# Altium footprint library AP63205WU-7.PcbLib: 1 footprints
Each footprint in its own frame and in the unit in brackets; x right, y up, seen from the top. Pads: shape width x height; smd on the part's side, far side on the other; paste and mask are expansions set on the pad; w line width, h text height; cw(c..) or ccw(c..) is an arc to the next point about the centre after c.
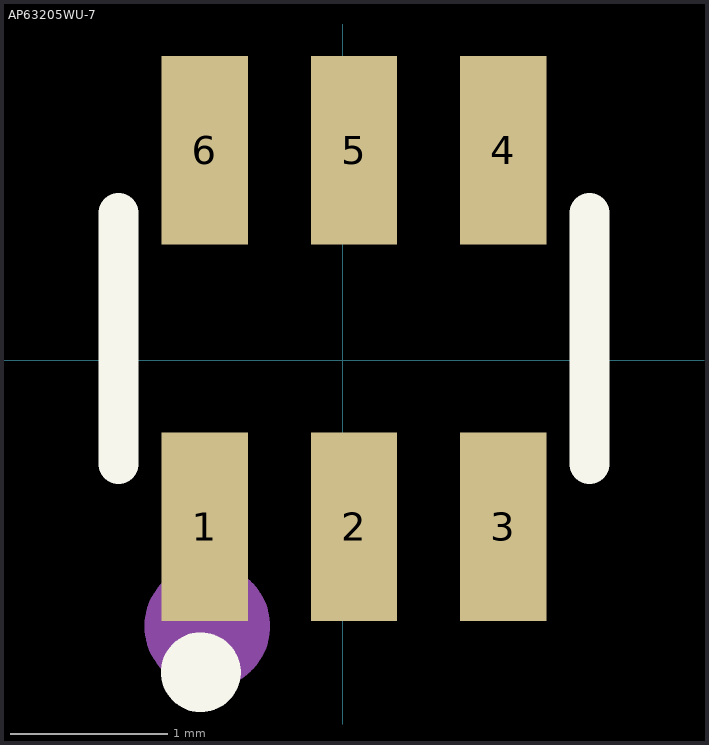
[diagram p0: the footprint, top view; thin cyan lines are the x and y axes]

## AP63205WU-7 [mm]
pads (6):
  rect 0.55x1.2 smd paste+0 mask+0.051: 1(-0.877,-1.061) 2(0.073,-1.061) 3(1.022,-1.061) 4(1.022,1.339) 5(0.073,1.339) 6(-0.877,1.339)
Top Overlay:
  circle w0.254: c-0.903,-1.986 r0.127
  lines w0.254: -1.427,-0.661 -1.427,0.939 ; 1.573,-0.661 1.573,0.939
Mechanical 15:
  circle w0.4: c-0.862,-1.693 r0.2
3D body "TSOT26.step": height 1, standoff -0.01, extent -1.376,-1.283 1.524,1.537